# Altium schematic symbol library gpa_invensense.SchLib: 1 symbol
Pins are listed as number, name and electrical type; pins without a type are passive.

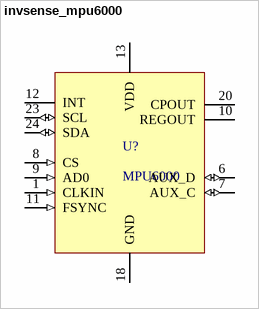
[diagram p0: symbol invsense_mpu6000]

## invsense_mpu6000
designator U?, comment MPU6000
footprint INVSENSE_QFN50P400X400X95_HS-25M (QFN, 24-Leads, Body 4.00x4.00mm, Pitch 0.50mm, Thermal Pad 2.70x2.60mm, IPC Low Density)
pins: 1 CLKIN (in), 6 AUX_D (io), 7 AUX_C (io), 8 CS (in), 9 AD0 (in), 10 REGOUT (power), 11 FSYNC (in), 12 INT (oc), 13 VDD (power), 18 GND (power), 20 CPOUT (power), 23 SCL (io), 24 SDA (io)